# Altium footprint library Nexperia.PcbLib: 2 footprints
Each footprint in its own frame and in the unit in brackets; x right, y up, seen from the top. Pads: shape width x height; smd on the part's side, far side on the other; paste and mask are expansions set on the pad; w line width, h text height; cw(c..) or ccw(c..) is an arc to the next point about the centre after c.
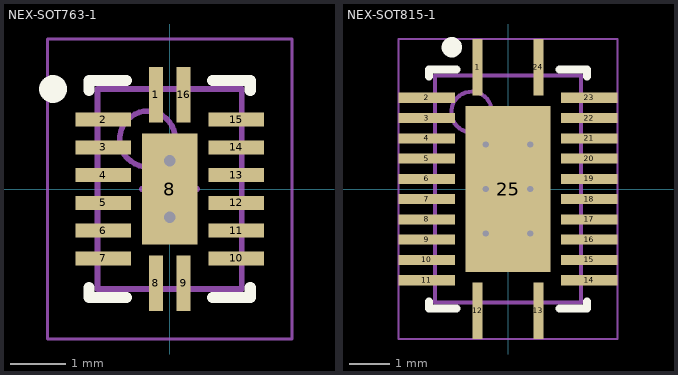
[diagram p0: the footprints below, top view; thin cyan lines are the x and y axes]

## NEX-SOT763-1 [mm] "QFN, 16-Leads, Body 2.50x3.50mm, Pitch 0.50mm, Thermal Pad 1.00x2.00mm, IPC Low Density"
height 1
pads (17):
  rect 0.25x1 smd: 1(-0.25,1.7) 8(-0.25,-1.7) 9(0.25,-1.7) 16(0.25,1.7)
  rect 1x0.25 smd: 2(-1.2,1.25) 3(-1.2,0.75) 4(-1.2,0.25) 5(-1.2,-0.25) 6(-1.2,-0.75) 7(-1.2,-1.25) 10(1.2,-1.25) 11(1.2,-0.75) 12(1.2,-0.25) 13(1.2,0.25) 14(1.2,0.75) 15(1.2,1.25)
  rect 1x2 smd: 8(0,0)
via 0,0.508 diameter 0.505 hole 0.2
via 0,-0.508 diameter 0.505 hole 0.2
Top Overlay:
  circle w0.25: c-2.1,1.8 r0.125
  lines w0.2: -1.45,-1.775 -1.45,-1.95 -0.775,-1.95 ; -1.45,1.775 -1.45,1.95 -0.775,1.95 ; 0.775,-1.95 1.45,-1.95 1.45,-1.775 ; 0.775,1.95 1.45,1.95 1.45,1.775
Mechanical 13:
  circle w0.1: c-0.4,0.9 r0.5
  lines w0.1: -1.3,-1.8 1.3,-1.8 1.3,1.8 -1.3,1.8 -1.3,-1.8
Mechanical 15:
  lines w0.05: -2.2,-2.7 2.2,-2.7 2.2,2.7 -2.2,2.7 -2.2,-2.7
  lines w0.1: -0.5,0 0.5,0 ; 0,-0.5 0,0.5
3D body "NEX-SOT763-1.step": height 1, standoff 0, extent -1.35,-1.85 1.35,1.85

## NEX-SOT815-1 [mm] "QFN, 24-Leads, Body 3.50x5.50mm, Pitch 1.50mm/0.50mm, Thermal Pad 2.10x4.10mm, IPC Low Density"
height 1
pads (25):
  rect 0.25x1.396 smd: 1(-0.75,3.002) 12(-0.75,-3.002) 13(0.75,-3.002) 24(0.75,3.002)
  rect 1.396x0.25 smd: 2(-2.002,2.25) 3(-2.002,1.75) 4(-2.002,1.25) 5(-2.002,0.75) 6(-2.002,0.25) 7(-2.002,-0.25) 8(-2.002,-0.75) 9(-2.002,-1.25) 10(-2.002,-1.75) 11(-2.002,-2.25) 14(2.002,-2.25) 15(2.002,-1.75) 16(2.002,-1.25) 17(2.002,-0.75) 18(2.002,-0.25) 19(2.002,0.25) 20(2.002,0.75) 21(2.002,1.25) 22(2.002,1.75) 23(2.002,2.25)
  rect 2.1x4.1 smd: 25(0,0)
via -0.55,1.1 diameter 0.406 hole 0.152
via 0.55,1.1 diameter 0.406 hole 0.152
via -0.55,0 diameter 0.406 hole 0.152
via 0.55,0 diameter 0.406 hole 0.152
via -0.55,-1.1 diameter 0.406 hole 0.152
via 0.55,-1.1 diameter 0.406 hole 0.152
Top Overlay:
  circle w0.25: c-1.385,3.496 r0.125
  lines w0.2: -1.95,-2.775 -1.95,-2.95 -1.275,-2.95 ; -1.95,2.775 -1.95,2.95 -1.275,2.95 ; 1.275,-2.95 1.95,-2.95 1.95,-2.775 ; 1.275,2.95 1.95,2.95 1.95,2.775
Mechanical 2:
  circle w0.1: c-0.9,1.9 r0.5
  lines w0.1: -1.8,-2.8 1.8,-2.8 1.8,2.8 -1.8,2.8 -1.8,-2.8
Mechanical 4:
  lines w0.05: -2.7,-3.7 2.7,-3.7 2.7,3.7 -2.7,3.7 -2.7,-3.7
  lines w0.1: -0.5,0 0.5,0 ; 0,-0.5 0,0.5
3D body "NEX-SOT815-1.step": height 1, standoff 0, extent -1.801,-2.801 1.801,2.801